# Altium footprint library STC16F40K128_CoreBoard.PcbLib: 1 footprints
Each footprint in its own frame and in the unit in brackets; x right, y up, seen from the top. Pads: shape width x height; smd on the part's side, far side on the other; paste and mask are expansions set on the pad; w line width, h text height; cw(c..) or ccw(c..) is an arc to the next point about the centre after c.
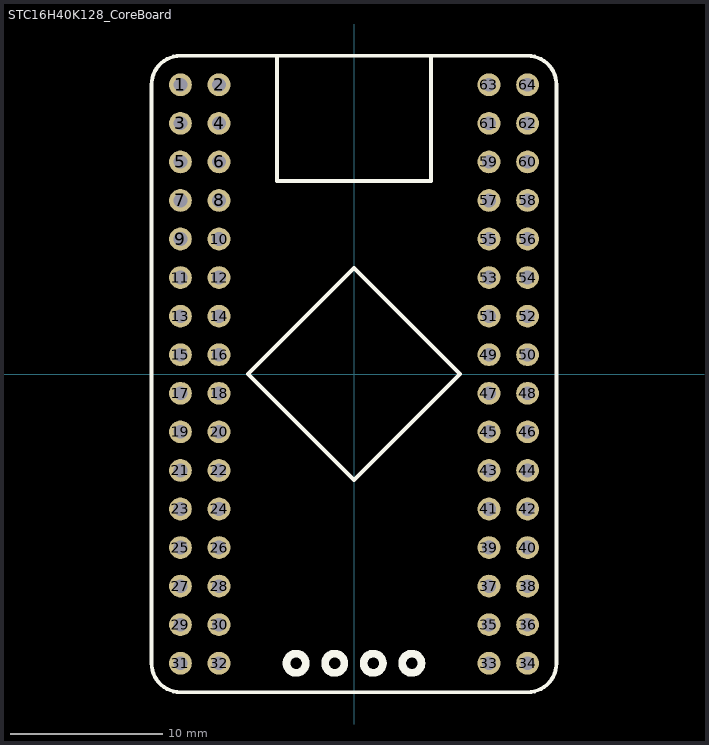
[diagram p0: the footprint, top view; thin cyan lines are the x and y axes]

## STC16H40K128_CoreBoard [mm] "逐飞科技STC16H40K128_CoreBoard"
pads (64):
  round 1.5 hole 0.9: 1(-11.43,19.05) 2(-8.89,19.05) 3(-11.43,16.51) 4(-8.89,16.51) 5(-11.43,13.97) 6(-8.89,13.97) 7(-11.43,11.43) 8(-8.89,11.43) 9(-11.43,8.89) 10(-8.89,8.89) 11(-11.43,6.35) 12(-8.89,6.35) 13(-11.43,3.81) 14(-8.89,3.81) 15(-11.43,1.27) 16(-8.89,1.27) 17(-11.43,-1.27) 18(-8.89,-1.27) 19(-11.43,-3.81) 20(-8.89,-3.81) 21(-11.43,-6.35) 22(-8.89,-6.35) 23(-11.43,-8.89) 24(-8.89,-8.89) 25(-11.43,-11.43) 26(-8.89,-11.43) 27(-11.43,-13.97) 28(-8.89,-13.97) 29(-11.43,-16.51) 30(-8.89,-16.51) 31(-11.43,-19.05) 32(-8.89,-19.05) 33(8.89,-19.05) 34(11.43,-19.05) 35(8.89,-16.51) 36(11.43,-16.51) 37(8.89,-13.97) 38(11.43,-13.97) 39(8.89,-11.43) 40(11.43,-11.43) 41(8.89,-8.89) 42(11.43,-8.89) 43(8.89,-6.35) 44(11.43,-6.35) 45(8.89,-3.81) 46(11.43,-3.81) 47(8.89,-1.27) 48(11.43,-1.27) 49(8.89,1.27) 50(11.43,1.27) 51(8.89,3.81) 52(11.43,3.81) 53(8.89,6.35) 54(11.43,6.35) 55(8.89,8.89) 56(11.43,8.89) 57(8.89,11.43) 58(11.43,11.43) 59(8.89,13.97) 60(11.43,13.97) 61(8.89,16.51) 62(11.43,16.51) 63(8.89,19.05) 64(11.43,19.05)
Top Overlay:
  circle w0.508: c-3.81,-19.05 r0.635
  circle w0.508: c-1.27,-19.05 r0.635
  circle w0.508: c1.27,-19.05 r0.635
  circle w0.508: c3.81,-19.05 r0.635
  lines w0.254: -5.08,20.955 -5.08,12.7 5.08,12.7 5.08,20.955 ; -13.335,-19.05 ccw(c-11.43,-19.05) -11.43,-20.955 11.43,-20.955 ccw(c11.43,-19.05) 13.335,-19.05 13.335,19.05 ccw(c11.43,19.05) 11.43,20.955 -11.43,20.955 ccw(c-11.43,19.05) -13.335,19.05 -13.335,-19.05 ; -6.985,0 0,-6.985 6.985,0 0,6.985 -6.985,0